# Altium schematic symbol library Toroidal 9 output.SchLib: 1 symbol
Pins are listed as number, name and electrical type; pins without a type are passive.

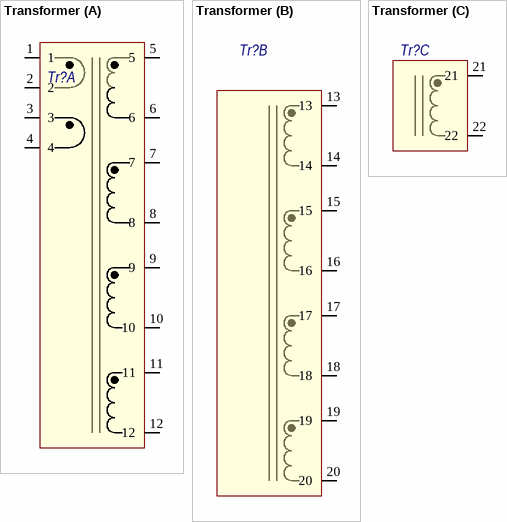
[diagram p0: symbol Transformer]

## Transformer
designator Tr?  (value not drawn)
!!! Обязательно Впишите описание символа; Value: 1:11
footprint Tr? (Toroidal transformer)
part A pins: 1, 2, 3, 4, 5, 6, 7, 8, 9, 10, 11, 12
part B pins: 13, 14, 15, 16, 17, 18, 19, 20
part C pins: 21, 22